# EAGLE library part SWITCH_DPDT (library bschulz)
Genric DPDT Switch
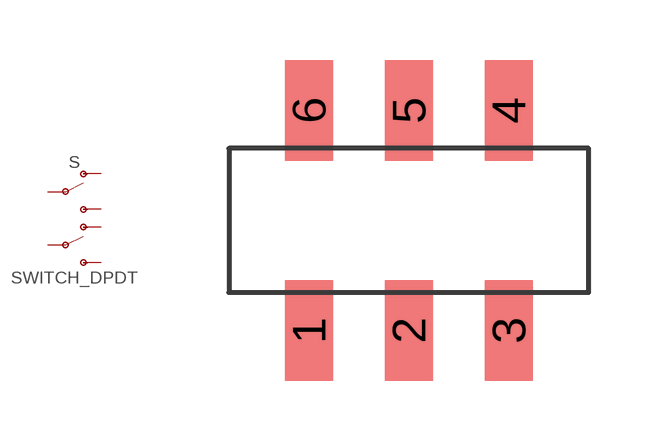
[diagram p107: symbol with the pads of JS202011SCQN; footprint JS202011SCQN]

Designator prefix S

## SWITCH_DPDTJS_GULLWING (DIGIKEY: 401-2002-1-ND; MF: C&K; MPN: JS202011SCQN)  [JS202011SCQN]
1  O1  pas
2  P1  pas
3  S1  pas
4  S2  pas
5  P2  pas
6  O2  pas

## Footprint JS202011SCQN (pad centres in mm)
JS202011SCQN, Gull Wing 6 pin Ref datasheet <https://www.ckswitches.com/media/1422/js.pdf>
smd 1.2 x 2.515: 1 -2.5,-2.75; 2 0,-2.75; 3 2.5,-2.75; 4 2.5,2.75; 5 0,2.75; 6 -2.5,2.75